# Altium schematic symbol library Test Points.SchLib: 3 symbols
Pins are listed as number, name and electrical type; pins without a type are passive.

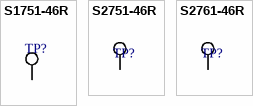
[diagram p0: symbols S1751-46R to S2761-46R]

## S1751-46R
designator TP?, comment Test Point  (value not drawn)
Large SMD Micro Test Point; Supplier 1: Farnell; Supplier 2: Farnell; Supplier 3: Farnell; Supplier Part Number 1: 2293786; Supplier Part Number 2: 1022338; Supplier Part Number 3: 2411184
footprint S1751-46R (SMD Test Point)
pins: 1

## S2751-46R
designator TP?, comment Test Point  (value not drawn)
Medium SMD Micro Test Point; Supplier 1: Digi-Key; Supplier 2: Newark; Supplier 3: Mouser; Supplier Part Number 1: 952-2664-6-ND; Supplier Part Number 2: 76Y5390; Supplier Part Number 3: 855-S2751-46R
footprint S2751-46R (SMD Test Point)
pins: 1

## S2761-46R
designator TP?, comment Test Point  (value not drawn)
Small SMD Micro Test Point; Supplier 1: Newark; Supplier 2: Mouser; Supplier 3: Digi-Key; Supplier Part Number 1: 76Y5391; Supplier Part Number 2: 855-S2761-46R; Supplier Part Number 3: 952-2665-6-ND
footprint S2761-46R (SMD test point)
pins: 1